# Altium footprint library Relays.PcbLib: 2 footprints
Each footprint in its own frame and in the unit in brackets; x right, y up, seen from the top. Pads: shape width x height; smd on the part's side, far side on the other; paste and mask are expansions set on the pad; w line width, h text height; cw(c..) or ccw(c..) is an arc to the next point about the centre after c.
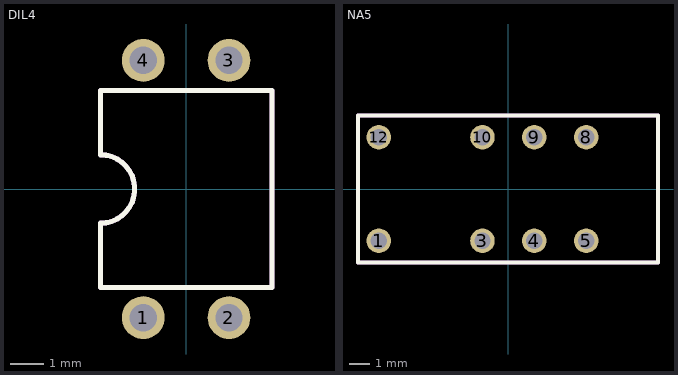
[diagram p0: the footprints below, top view; thin cyan lines are the x and y axes]

## DIL4 [mil]
pads (4):
  round 50 hole 32: 1(-50,-150) 2(50,-150) 3(50,150) 4(-50,150)
Top Overlay:
  lines w6: -100,-115 100,-115 100,115 -100,115 -100,40 cw(c-100,0) -100,-40 -100,-115
Mechanical 2:
  lines w6: -100,-115 100,-115 100,115 -100,115 -100,40 cw(c-100,0) -100,-40 -100,-115
3D body "TLP222G.stp": height 173.7, standoff -99.92, extent -90.15,-173.22 90.17,173.24

## NA5 [mil]
pads (8):
  round 47.25 hole 31.5: 1(-250,-100) 3(-50,-100) 4(50,-100) 5(150,-100) 8(150,100) 9(50,100) 10(-50,100) 12(-250,100)
Top Overlay:
  lines w8: -290.16,-141.73 -290.16,141.73 288.58,141.73 288.58,-141.73 -290.16,-141.73
Mechanical 2:
  lines w8: -290.16,-141.73 288.58,-141.73 288.58,141.73 -290.16,141.73 -290.16,-141.73
3D body "NA5.stp": height 362.2, standoff -116.14, extent -291.33,-143.69 291.34,143.71